# Altium schematic symbol library LAN7800-IVSX.SchLib: 1 symbol
Pins are listed as number, name and electrical type; pins without a type are passive.

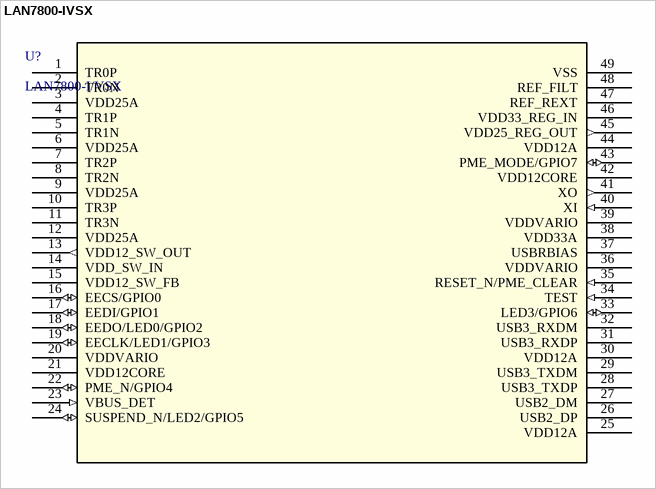
[diagram p0: symbol LAN7800-IVSX]

## LAN7800-IVSX
designator U?, comment LAN7800-I/VSX
Description; Manufacturer_Name: Microchip; Copyright: Copyright (C) 2025 Ultra Librarian. All rights reserved.; Manufacturer_Part_Number: LAN7800-I/VSX; RefDes: RefDes; Type: Type
footprint SQFN48_VSX_MCH
pins: 1 TR0P, 2 TR0N, 3 VDD25A (power), 4 TR1P, 5 TR1N, 6 VDD25A (power), 7 TR2P, 8 TR2N, 9 VDD25A (power), 10 TR3P, 11 TR3N, 12 VDD25A (power), 13 VDD12_SW_OUT (out), 14 VDD_SW_IN (power), 15 VDD12_SW_FB (power), 16 EECS/GPIO0 (io), 17 EEDI/GPIO1 (io), 18 EEDO/LED0/GPIO2 (io), 19 EECLK/LED1/GPIO3 (io), 20 VDDVARIO (power), 21 VDD12CORE (power), 22 PME_N/GPIO4 (io), 23 VBUS_DET (in), 24 SUSPEND_N/LED2/GPIO5 (io), 25 VDD12A (power), 26 USB2_DP, 27 USB2_DM, 28 USB3_TXDP, 29 USB3_TXDM, 30 VDD12A (power), 31 USB3_RXDP, 32 USB3_RXDM, 33 LED3/GPIO6 (io), 34 TEST (in), 35 RESET_N/PME_CLEAR (in), 36 VDDVARIO (power), 37 USBRBIAS, 38 VDD33A (power), 39 VDDVARIO (power), 40 XI (in), 41 XO (out), 42 VDD12CORE (power), 43 PME_MODE/GPIO7 (io), 44 VDD12A (power), 45 VDD25_REG_OUT (out), 46 VDD33_REG_IN (power), 47 REF_REXT, 48 REF_FILT, 49 VSS (power)